# EAGLE library part 50238-024 (library con-aces-50238-series)
ACES CONNECTORS 50238 SERIES ACES Connecors 50238 <https://www.acesconn.com/tw/series/50238-xxxxx-xxx/1290>
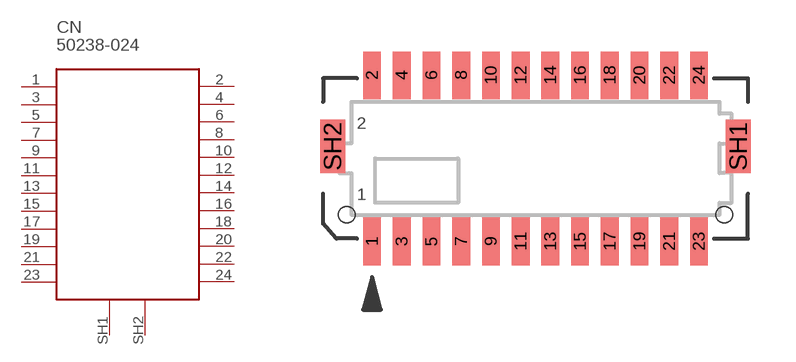
[diagram p7: symbol with the pads of 50238-024; footprint 50238-024]

Designator prefix CN

## 50238-024  [50238-024]
1  1
2  2
3  3
4  4
5  5
6  6
7  7
8  8
9  9
10  10
11  11
12  12
13  13
14  14
15  15
16  16
17  17
18  18
19  19
20  20
21  21
22  22
23  23
24  24
SH1  SH1
SH2  SH2

## Footprint 50238-024 (pad centres in mm)
smd 0.6 x 1.6: 1 -5.5,-2.8; 2 -5.5,2.8; 3 -4.5,-2.8; 4 -4.5,2.8; 5 -3.5,-2.8; 6 -3.5,2.8; 7 -2.5,-2.8; 8 -2.5,2.8; 9 -1.5,-2.8; 10 -1.5,2.8; 11 -0.5,-2.8; 12 -0.5,2.8; 13 0.5,-2.8; 14 0.5,2.8; 15 1.5,-2.8; 16 1.5,2.8; 17 2.5,-2.8; 18 2.5,2.8; 19 3.5,-2.8; 20 3.5,2.8; 21 4.5,-2.8; 22 4.5,2.8; 23 5.5,-2.8; 24 5.5,2.8
smd 0.85 x 1.8: SH1 6.825,0.4; SH2 -6.825,0.4
hole 0.55 at -6.35,-1.9
hole 0.55 at 6.35,-1.9